# Altium footprint library Datalogger.PcbLib: 55 footprints (part 1 of 4)
Each footprint in its own frame and in the unit in brackets; x right, y up, seen from the top. Pads: shape width x height; smd on the part's side, far side on the other; paste and mask are expansions set on the pad; w line width, h text height; cw(c..) or ccw(c..) is an arc to the next point about the centre after c.
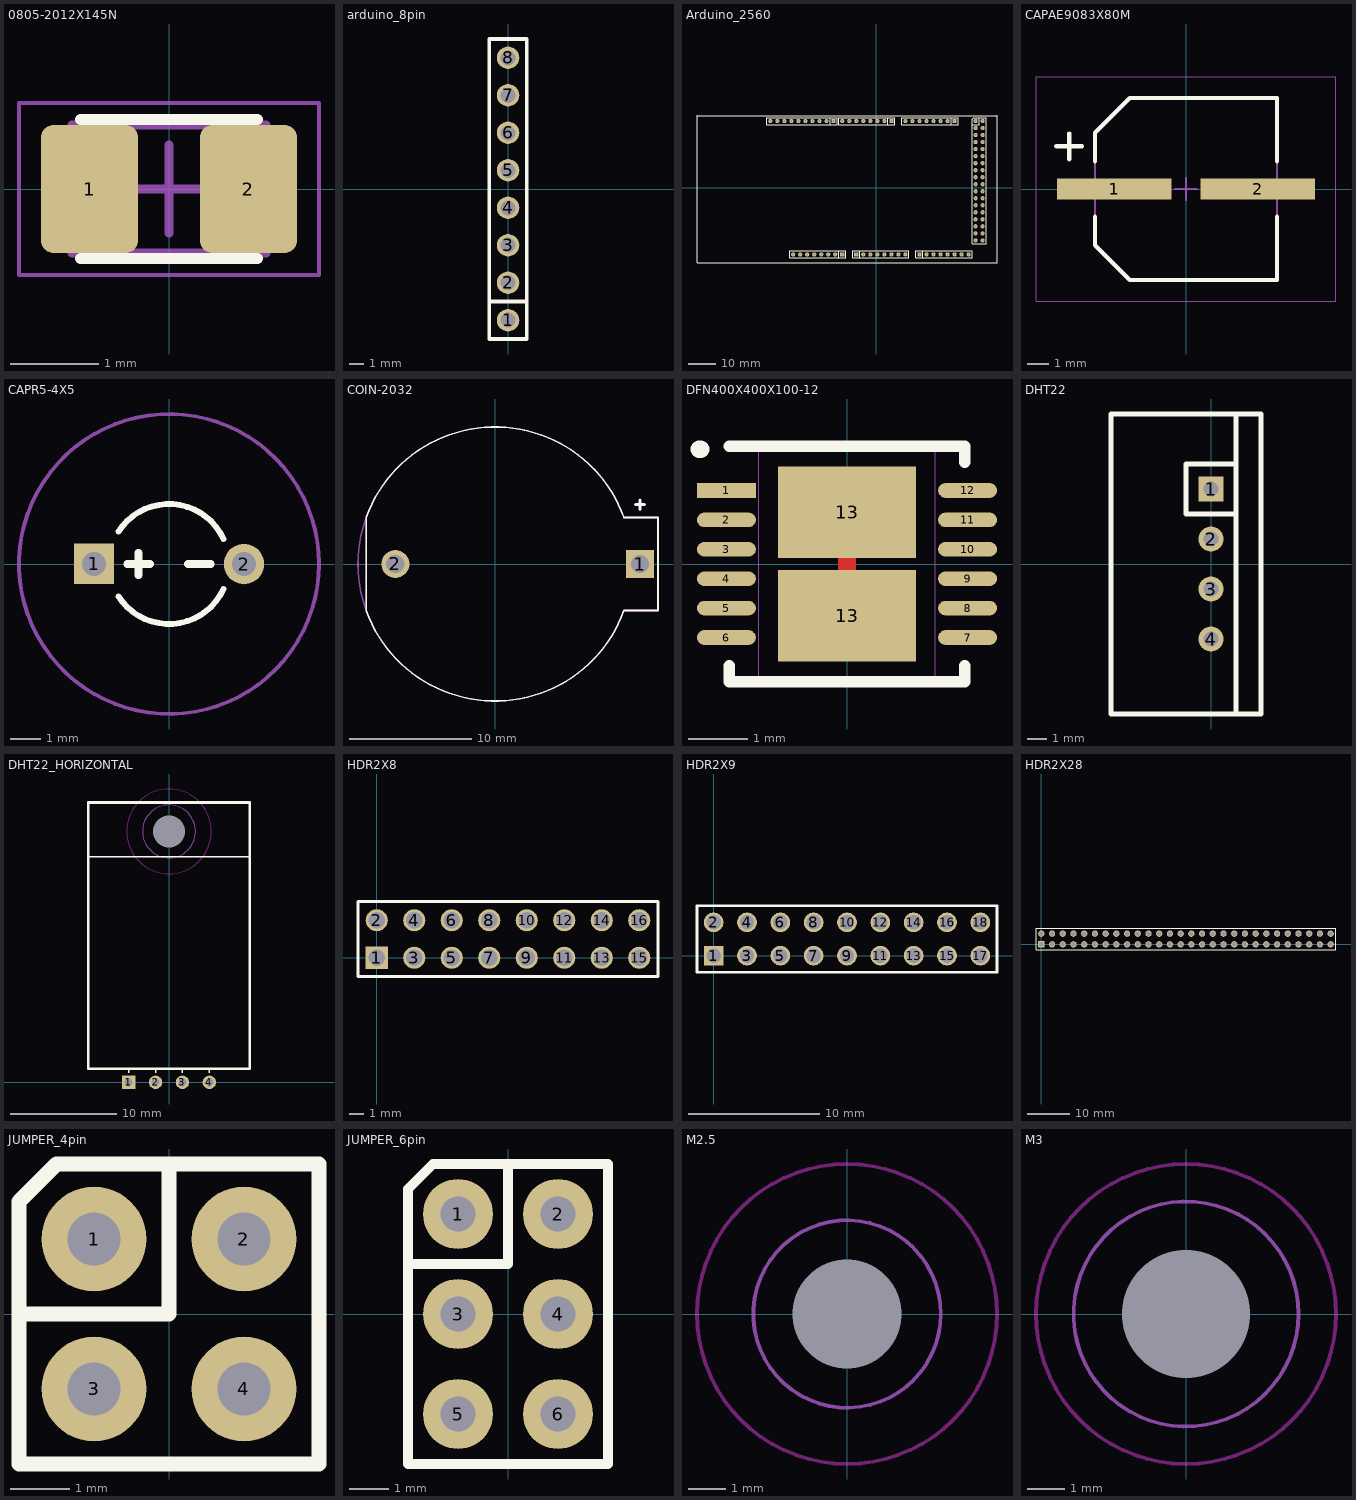
[diagram p0: the footprints below, top view; thin cyan lines are the x and y axes]

## 0805-2012X145N [mm] "Chip Non Polarized, 2-Leads, Body 2.00x1.25mm, Imperial 0805, Metric 2012, IPC Medium Density"
height 1.45
pads (2):
  rrect25% 1.1x1.45 smd: 1(-0.9,0) 2(0.9,0)
Top Overlay:
  lines w0.127: -1,-0.788 1,-0.788 ; -1,0.788 1,0.788
Top Assembly:
  lines w0.1: -1.1,-0.725 -1.1,0.725 1.1,0.725 1.1,-0.725 -1.1,-0.725
Top Designator (Mech11):
  text ".Designator" at 0,0.188 h1
Top Courtyard:
  lines w0.05: -1.7,-0.975 1.7,-0.975 1.7,0.975 -1.7,0.975 -1.7,-0.975
Top Component Center:
  lines w0.1: -0.5,0 0.5,0 ; 0,-0.5 0,0.5
3D body "0805-RESC2012X145N.step": height 1.45, standoff 0, extent -1,-0.625 1,0.625

## arduino_8pin [mil] "8 pin arduino"
height 10
pads (8):
  round 60 hole 40: 1(0,-350) 2(0,-250) 3(0,-150) 4(0,-50) 5(0,50) 6(0,150) 7(0,250) 8(0,350)
Top Overlay:
  lines w10: -50,-300 50,-300 ; -50,-400 50,-400 50,400 -50,400 -50,-400

## Arduino_2560 [mil]
pads (86):
  round 60 hole 30: 1(-1187.5,-950) 2(-1087.5,-950) 3(-987.5,-950) 4(-887.5,-950) 5(-787.5,-950) 6(-687.5,-950) 7(-587.5,-950) 10(-187.5,-950) 11(-87.5,-950) 12(12.5,-950) 13(112.5,-950) 14(212.5,-950) 15(312.5,-950) 16(412.5,-950) 18(712.5,-950) 19(812.5,-950) 20(912.5,-950) 21(1012.5,-950) 22(1112.5,-950) 23(1212.5,-950) 24(1312.5,-950) 25(1512.5,-750) 26(1412.5,-750) 27(1512.5,-650) 28(1412.5,-650) 29(1512.5,-550) 30(1412.5,-550) 31(1512.5,-450) 32(1412.5,-450) 33(1512.5,-350) 34(1412.5,-350) 35(1512.5,-250) 36(1412.5,-250) 37(1512.5,-150) 38(1412.5,-150) 39(1512.5,-50) 40(1412.5,-50) 41(1512.5,50) 42(1412.5,50) 43(1512.5,150) 44(1412.5,150) 45(1512.5,250) 46(1412.5,250) 47(1512.5,350) 48(1412.5,350) 49(1512.5,450) 50(1412.5,450) 51(1512.5,550) 52(1412.5,550) 53(1512.5,650) 54(1412.5,650) 55(1512.5,750) 56(1412.5,750) 57(1512.5,850) 58(1412.5,850) 59(1512.5,950) 60(1412.5,950) 62(1012.5,950) 63(912.5,950) 64(812.5,950) 65(712.5,950) 66(612.5,950) 67(512.5,950) 68(412.5,950) 70(112.5,950) 71(12.5,950) 72(-87.5,950) 73(-187.5,950) 74(-287.5,950) 75(-387.5,950) 76(-487.5,950) 78(-712.5,950) 79(-812.5,950) 80(-912.5,950) 81(-1012.5,950) 82(-1112.5,950) 83(-1212.5,950) 84(-1312.5,950) 85(-1412.5,950) 86(-1512.5,950)
  rect 60x60 hole 30: 8(-487.5,-950) 9(-287.5,-950) 17(612.5,-950) 61(1112.5,950) 69(212.5,950) 77(-612.5,950)
Top Overlay:
  lines w10: -2557.67,1028.55 1716.23,1028.55 1717.06,1029.37 1717.06,-1065.63 -2557.67,-1065.63 -2557.67,1029.37 ; -537.5,-1000 -537.5,-900 ; -237.5,-1000 -237.5,-900 ; 162.5,900 162.5,1000 ; 662.5,-1000 662.5,-900 ; 1062.5,900 1062.5,1000 ; 1362.5,900 1462.5,900 1462.5,1000 ; -662.5,900 -562.5,900 -562.5,1000 -662.5,1000 ; -662.5,900 -662.5,1000 ; -662.5,900 -1562.5,900 -1562.5,1000 -662.5,1000 ; -1237.5,-1000 -1237.5,-900 -437.5,-900 -437.5,-1000 -1237.5,-1000 ; -537.5,900 -537.5,1000 262.5,1000 262.5,900 -537.5,900 ; -337.5,-1000 462.5,-1000 462.5,-900 -337.5,-900 -337.5,-1000 ; 362.5,900 362.5,1000 1162.5,1000 1162.5,900 362.5,900 ; 562.5,-1000 1362.5,-1000 1362.5,-900 562.5,-900 562.5,-1000 ; 1362.5,-800 1562.5,-800 1562.5,1000 1387.5,1000 1362.5,975 1362.5,-800
3D body "ArduinoMega2560R3.stp": height 727.75, standoff 141.29, extent -2557.67,-1065.63 1717.06,1029.37

## CAPAE9083X80M [mm] "Aluminum Electrolytic Capacitor, Case 8x6.5mm, Body 8.30x8.30x8.00mm, IPC Low Density; Support 4x5.5mm,5x5.5mm, 6.3x5.5mm, 6.3x6.3mm, 6.3x8mm"
height 8
pads (2):
  rect 5.35x1 smd: 1(-3.35,0) 2(3.35,0)
Top Overlay:
  lines w0.2: -6.05,1.99 -4.85,1.99 ; -5.45,1.39 -5.45,2.59 ; -4.25,-1.3 -4.25,-2.625 -2.625,-4.25 4.25,-4.25 4.25,-1.3 ; -4.25,1.3 -4.25,2.625 -2.625,4.25 4.25,4.25 4.25,1.3
Top 3D Body (Mech13):
  lines w0.1: -4.25,-2.625 -4.25,2.625 -2.625,4.25 4.25,4.25 4.25,-4.25 -2.625,-4.25 -4.25,-2.625
Top Courtyard:
  lines w0.05: -7,-5.25 7,-5.25 7,5.25 -7,5.25 -7,-5.25
Top Component Center:
  lines w0.1: -0.5,0 0.5,0 ; 0,-0.5 0,0.5
3D body "CAPAE9083X80M.step": height 8, standoff 0, extent -4.5,-4.25 4.5,4.25

## CAPR5-4X5 [mm] "Capacitor; 2 Leads"
height 12
pads (2):
  rect 1.35x1.35 hole 0.8: 1(-2.5,0)
  round 1.35 hole 0.8: 2(2.5,0)
Top Overlay:
  lines w0.2: -1.687,-1.075 ccw(c0,0) 1.819,-0.832 ; -1.687,1.075 cw(c0,0) 1.819,0.832
  lines w0.254: -1.397,0 -0.635,0 ; -1.016,-0.381 -1.016,0.381 ; 0.635,0 1.397,0
Top Courtyard:
  circle w0.127: c0,0 r5

## COIN-2032 [mm] "20mm Coin Cell Battery Holder for CR2032"
height 8.5
pads (2):
  rect 2.3x2.3 hole 1.5: 1(11.85,0)
  round 2.3 hole 1.5: 2(-8.15,0)
Top Overlay:
  lines w0.127: 10.539,-3.802 cw(c0,0) -10.54,-3.8 -10.54,3.8 cw(c0,0) 10.54,3.8 13.32,3.8 13.32,-3.8 10.54,-3.8
  lines w0.254: 11.469,4.85 12.231,4.85 ; 11.85,4.469 11.85,5.231
Top Courtyard:
  lines w0.127: -10.54,-3.8 -10.54,3.8 ; 10.539,-3.802 cw(c0,0) -11.204,0 cw(c0,0) 10.54,3.8 13.32,3.8 13.32,-3.8 10.54,-3.8

## DFN400X400X100-12 [mm] "12-Lead DFN Plastic Package (4mm x 4mm) 0.5mm Pitch"
pads (14):
  rect 1x0.25 smd mask+0.07: 1(-2.05,1.25)
  oval 1x0.25 smd mask+0.07: 2(-2.05,0.75) 3(-2.05,0.25) 4(-2.05,-0.25) 5(-2.05,-0.75) 6(-2.05,-1.25) 7(2.05,-1.25) 8(2.05,-0.75) 9(2.05,-0.25) 10(2.05,0.25) 11(2.05,0.75) 12(2.05,1.25)
  rect 2.35x1.55 smd mask+0.08: 13(0,-0.88) 13(0,0.88)
Top Layer:
  lines w0.305: 0,-0.88 0,0.88
Top Overlay:
  lines w0.2: -2,-1.73 -2,-2 2,-2 2,-1.73 ; -2,2 2,2 2,1.73
  lines w0.3: -2.51,1.95 -2.49,1.95
Top 3D Body (Mech13):
  lines w0.02: -1.5,-2 -1.5,2 ; 1.5,-2 1.5,2
3D body: height 1, standoff 0.2, extent -2,-2 2,2

## DHT22 [mil]
pads (4):
  rect 50x50 hole 30: 1(0,150)
  round 50 hole 30: 2(0,50) 3(0,-50) 4(0,-150)
Top Overlay:
  lines w10: 50,-300 50,300 ; 50,100 -50,100 -50,200 50,200 ; -200,-300 100,-300 100,300 -200,300 -200,-300
Top Designator (Mech11):
  text "1" at -100,150 h50

## DHT22_HORIZONTAL [mil]
pads (5):
  round 0 hole 118.11 unplated: 0(0,931.1)
  rect 50x50 hole 30: 1(-150,0)
  round 50 hole 30: 2(-50,0) 3(50,0) 4(150,0)
Top Overlay:
  lines w5: -150,36.22 -150,50 ; -50,36.22 -50,50 ; 50,36.22 50,50 ; 150,36.22 150,50
  lines w5.91: -300,837.4 300,837.4
  lines w10: -300,50 -300,1038.19 300,1038.19 300,50 -300,50
Keep-Out Layer:
  circle w3.94: c0,931.1 r157.48
Top Designator (Mech11):
  text "1" at -229.92,-24.02 h50
Top Courtyard:
  circle w3.94: c0,931.1 r98.43
3D body: height 303.15, standoff 3.94, extent -300,50 300,837.4

## HDR2X8 [mm] "Connector; Header; 8x2 Position"
pads (16):
  rect 1.5x1.5 hole 1.1: 1(0,0)
  round 1.5 hole 1.1: 2(0,2.54) 3(2.54,0) 4(2.54,2.54) 5(5.08,0) 6(5.08,2.54) 7(7.62,0) 8(7.62,2.54) 9(10.16,0) 10(10.16,2.54) 11(12.7,0) 12(12.7,2.54) 13(15.24,0) 14(15.24,2.54) 15(17.78,0) 16(17.78,2.54)
Top Overlay:
  lines w0.2: -1.27,-1.27 -1.27,3.81 19.05,3.81 19.05,-1.27 -1.27,-1.27
Top Designator (Mech11):
  text "2" at -2.54,2.032 h1.27
  text "1" at -2.54,-0.508 h1.27
  text "15" at 19.304,-0.508 h1.27
  text "16" at 19.304,2.032 h1.27

## HDR2X9 [mm] "Connector; Header; 9x2 Position"
pads (18):
  rect 1.5x1.5 hole 1.1: 1(0,0)
  round 1.5 hole 1.1: 2(0,2.54) 3(2.54,0) 4(2.54,2.54) 5(5.08,0) 6(5.08,2.54) 7(7.62,0) 8(7.62,2.54) 9(10.16,0) 10(10.16,2.54) 11(12.7,0) 12(12.7,2.54) 13(15.24,0) 14(15.24,2.54) 15(17.78,0) 16(17.78,2.54) 17(20.32,0) 18(20.32,2.54)
Top Overlay:
  lines w0.2: -1.27,-1.27 21.59,-1.27 21.59,3.81 -1.27,3.81 -1.27,-1.27
Top Designator (Mech11):
  text "18" at 22.352,2.032 h1.27
  text "17" at 22.352,-0.508 h1.27
  text "1" at -2.54,-0.508 h1.27
  text "2" at -3.048,2.032 h1.27

## HDR2X28 [mm] "Connector; Header; 28x2 Position"
pads (56):
  rect 1.5x1.5 hole 1.1: 1(0,0)
  round 1.5 hole 1.1: 2(0,2.54) 3(2.54,0) 4(2.54,2.54) 5(5.08,0) 6(5.08,2.54) 7(7.62,0) 8(7.62,2.54) 9(10.16,0) 10(10.16,2.54) 11(12.7,0) 12(12.7,2.54) 13(15.24,0) 14(15.24,2.54) 15(17.78,0) 16(17.78,2.54) 17(20.32,0) 18(20.32,2.54) 19(22.86,0) 20(22.86,2.54) 21(25.4,0) 22(25.4,2.54) 23(27.94,0) 24(27.94,2.54) 25(30.48,0) 26(30.48,2.54) 27(33.02,0) 28(33.02,2.54) 29(35.56,0) 30(35.56,2.54) 31(38.1,0) 32(38.1,2.54) 33(40.64,0) 34(40.64,2.54) 35(43.18,0) 36(43.18,2.54) 37(45.72,0) 38(45.72,2.54) 39(48.26,0) 40(48.26,2.54) 41(50.8,0) 42(50.8,2.54) 43(53.34,0) 44(53.34,2.54) 45(55.88,0) 46(55.88,2.54) 47(58.42,0) 48(58.42,2.54) 49(60.96,0) 50(60.96,2.54) 51(63.5,0) 52(63.5,2.54) 53(66.04,0) 54(66.04,2.54) 55(68.58,0) 56(68.58,2.54)
Top Overlay:
  lines w0.2: -1.27,-1.27 -1.27,3.81 69.85,3.81 69.85,-1.27 -1.27,-1.27
Top Designator (Mech11):
  text "2" at -2.54,2.032 h1.27
  text "1" at -2.54,-0.508 h1.27
  text "55" at 70.612,-0.508 h1.27
  text "56" at 70.612,2.032 h1.27

## JUMPER_4pin [mil]
pads (4):
  round 70 hole 35.43: 1(-50,50) 2(50,50) 3(-50,-50) 4(50,-50)
Top Overlay:
  lines w10: -100,0 0,0 0,100 ; -100,-100 100,-100 100,100 -75,100 -100,75 -100,-100

## JUMPER_6pin [mil]
pads (6):
  round 70 hole 35.43: 1(-50,100) 2(50,100) 3(-50,0) 4(50,0) 5(-50,-100) 6(50,-100)
Top Overlay:
  lines w10: -100,50 0,50 0,150 ; -100,-150 -100,125 -75,150 100,150 100,-150 -100,-150

## M2.5 [mm] "M2.5 Screw Mounting Hole, 5mm Head Diameter"
height 1.5
pads (1):
  round 0 hole 2.9 unplated: 0(0,0)
Keep-Out Layer:
  circle w0.1: c0,0 r4
Top Courtyard:
  circle w0.1: c0,0 r2.5

## M3 [mm] "M3 Screw Mounting Hole, 6mm Head Diameter Clearance"
height 1.5
pads (1):
  round 0 hole 3.4 unplated: 0(0,0)
Keep-Out Layer:
  circle w0.1: c0,0 r4
Top Courtyard:
  circle w0.1: c0,0 r3